# Altium schematic symbol library SCH - CONNECTORS - CUI SJ-43514.SCHLIB: 1 symbol
Pins are listed as number, name and electrical type; pins without a type are passive.

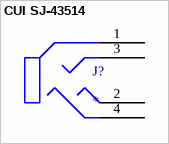
[diagram p0: symbol CUI SJ-43514]

## CUI SJ-43514
designator J?
pins: 1 SLEEVE, 2 TIP, 3 RING 1, 4 RING 2